# EAGLE library part LM63625DQDRRRQ1 (library mmWAVE)
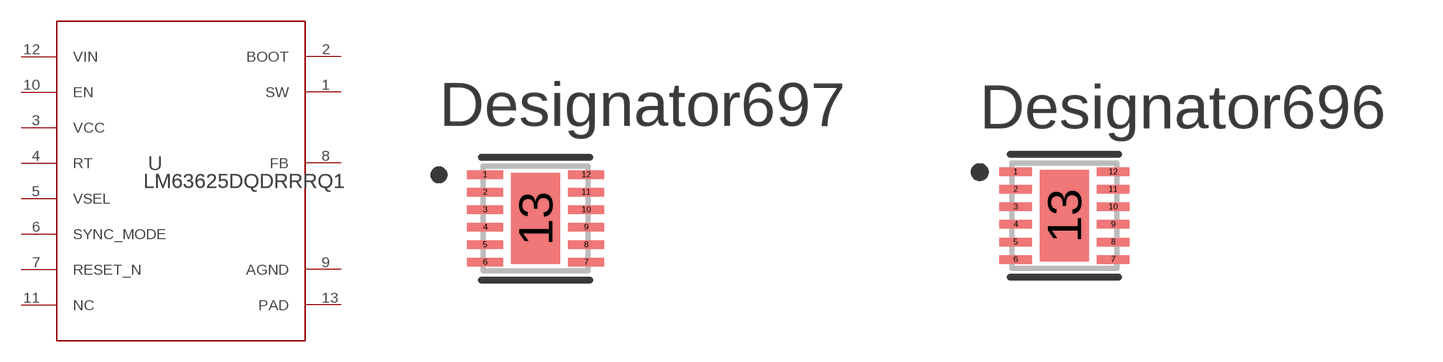
[diagram p1: symbol with the pads of DRR0012E-IPC_A; footprints DRR0012E-IPC_A, DRR0012E-IPC_B]

Designator prefix U

## LM63625DQDRRRQ1 (COPYRIGHT: Copyright (C) 2025 Ultra Librarian. All rights reserved.; MANUFACTURER_PART_NUMBER: LM63625DQDRRRQ1; MFR_NAME: Texas Instruments; REFDES: RefDes; TYPE: TYPE)  [DRR0012E-IPC_A]
1  SW  pwr
2  BOOT  pwr
3  VCC  pwr
4  RT  in
5  VSEL  in
6  SYNC_MODE  in
7  RESET_N  oc
8  FB  in
9  AGND  pwr
10  EN  in
11  NC  pas
12  VIN  pwr
13  PAD  pwr

## LM63625DQDRRRQ1DRR0012E-IPC_B (COPYRIGHT: Copyright (C) 2025 Ultra Librarian. All rights reserved.; MANUFACTURER_PART_NUMBER: LM63625DQDRRRQ1; MFR_NAME: Texas Instruments; REFDES: RefDes; TYPE: TYPE)  [DRR0012E-IPC_B]
Pads as for DRR0012E-IPC_A

## LM63625DQDRRRQ1DRR0012E-IPC_C (COPYRIGHT: Copyright (C) 2025 Ultra Librarian. All rights reserved.; MANUFACTURER_PART_NUMBER: LM63625DQDRRRQ1; MFR_NAME: Texas Instruments; REFDES: RefDes; TYPE: TYPE)  [DRR0012E-IPC_C]
Pads as for DRR0012E-IPC_A

## LM63625DQDRRRQ1DRR0012E-MFG (COPYRIGHT: Copyright (C) 2025 Ultra Librarian. All rights reserved.; MANUFACTURER_PART_NUMBER: LM63625DQDRRRQ1; MFR_NAME: Texas Instruments; REFDES: RefDes; TYPE: TYPE)  [DRR0012E-MFG]
Pads as for DRR0012E-IPC_A

## Footprint DRR0012E-IPC_A (pad centres in mm)
smd 1.03 x 0.242: 1 -1.441,1.25; 2 -1.441,0.75; 3 -1.441,0.25; 4 -1.441,-0.25; 5 -1.441,-0.75; 6 -1.441,-1.25; 7 1.441,-1.25; 8 1.441,-0.75; 9 1.441,-0.25; 10 1.441,0.25; 11 1.441,0.75; 12 1.441,1.25
smd 1.4 x 2.6: 13 0,0

## Footprint DRR0012E-IPC_B (pad centres in mm)
smd 0.93 x 0.242: 1 -1.391,1.25; 2 -1.391,0.75; 3 -1.391,0.25; 4 -1.391,-0.25; 5 -1.391,-0.75; 6 -1.391,-1.25; 7 1.391,-1.25; 8 1.391,-0.75; 9 1.391,-0.25; 10 1.391,0.25; 11 1.391,0.75; 12 1.391,1.25
smd 1.4 x 2.6: 13 0,0

## Footprint DRR0012E-IPC_C (pad centres in mm)
smd 0.83 x 0.242: 1 -1.341,1.25; 2 -1.341,0.75; 3 -1.341,0.25; 4 -1.341,-0.25; 5 -1.341,-0.75; 6 -1.341,-1.25; 7 1.341,-1.25; 8 1.341,-0.75; 9 1.341,-0.25; 10 1.341,0.25; 11 1.341,0.75; 12 1.341,1.25
smd 1.4 x 2.6: 13 0,0

## Footprint DRR0012E-MFG (pad centres in mm)
smd 0.62 x 0.25: 1 -1.39,1.25; 2 -1.39,0.75; 3 -1.39,0.25; 4 -1.39,-0.25; 5 -1.39,-0.75; 6 -1.39,-1.25; 7 1.39,-1.25; 8 1.39,-0.75; 9 1.39,-0.25; 10 1.39,0.25; 11 1.39,0.75; 12 1.39,1.25
smd 1.3 x 2.5: 13 0,0
drill 0.203 pad 0.508: 14 0,0.991; 15 0.025,0; 16 0,-0.991